# Altium schematic symbol library LM358.SchLib: 1 symbol
Pins are listed as number, name and electrical type; pins without a type are passive.

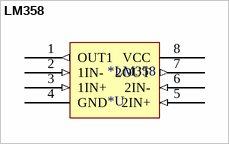
[diagram p0: symbol LM358]

## LM358
designator *LM358, comment *U
footprint LC-DIP-8
pins: 1 OUT1 (out), 2 1IN- (in), 3 1IN+ (in), 4 GND (power), 5 2IN+ (in), 6 2IN- (in), 7 2OUT (out), 8 VCC (power)